# EAGLE library part LT1910 (library MRDT-2015-PowerBoard)
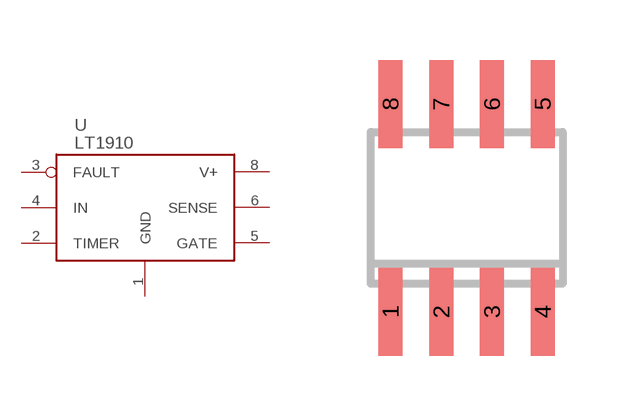
[diagram p4: symbol with the pads of SO8; footprint SO8]

Designator prefix -

## LT1910  [SO8]
1  GND
2  TIMER
3  FAULT
4  IN
5  GATE
6  SENSE
8  V+

## Footprint SO8 (pad centres in mm)
8-Lead Small Outline IC (SO-8) Source: http://www.analog.com/UploadedFiles/Data_Sheets/703465986AD8611_2_0.pdf
smd 0.6 x 2.2: 1 -1.905,-2.6; 2 -0.635,-2.6; 3 0.635,-2.6; 4 1.905,-2.6; 5 1.905,2.6; 6 0.635,2.6; 7 -0.635,2.6; 8 -1.905,2.6